# Altium integrated library ON Semi Power Mgt Switching Regulator.IntLib: 29 symbols
Pins are listed as number, name and electrical type; pins without a type are passive.

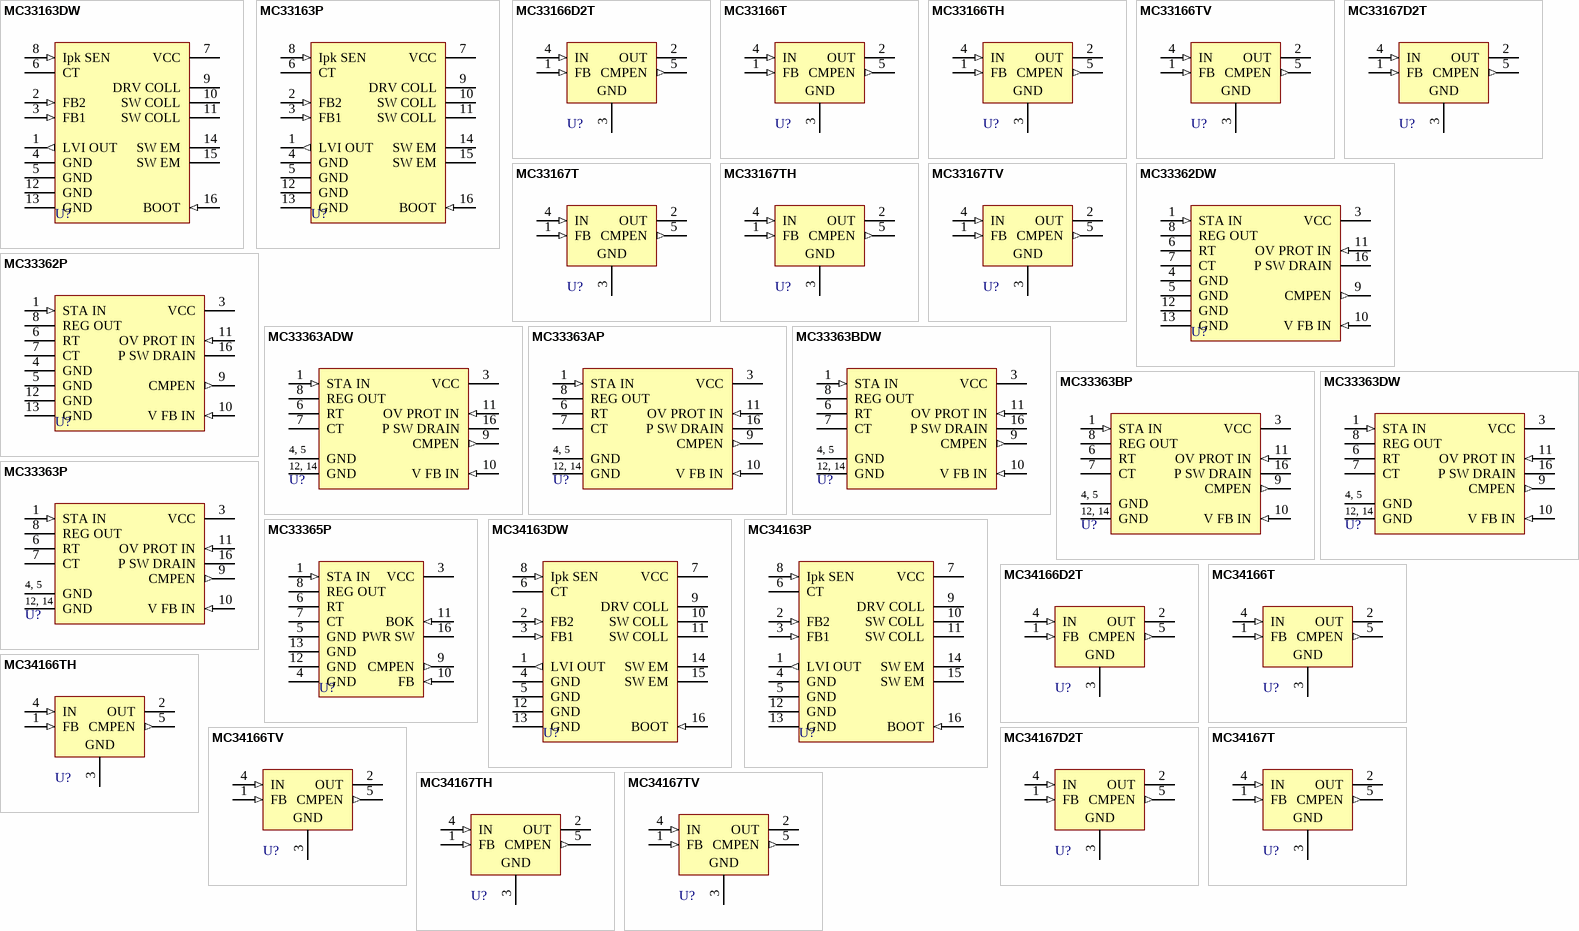
[diagram p0: symbols MC33163DW to MC34167TV]

## MC33163DW
designator U?
Power Switching Regulator; Published: 15-Apr-2002; LatestRevisionDate: 13-Apr-2006; LatestRevisionNote: IPC-7351 Footprint Added.; DatasheetVersion: 1996; PackageVersion: Jul-1999; PackageReference: 751G-03; Publisher: Altium Limited; PackageDescription: 16-Pin Small Outline Integrated Circuit 1.27 mm Pitch; ComponentLink1Description: Manufacturer Link; ComponentLink1URL: http://www.onsemi.com/site/products/taxonomy/0,4438,503,00.html; ComponentLink2Description: Datasheet; ComponentLink2URL: http://www.onsemi.com/pub/Collateral/MC34163-D.PDF
footprint 751G-03_N (SOIC, 16-Leads, Body 10.3x7.5mm, Pitch 1.27mm, IPC Medium Density)
footprint 751G-03_L (SOIC, 16-Leads, Body 10.3x7.5mm, Pitch 1.27mm, IPC High Density)
footprint 751G-03_M (SOIC, 16-Leads, Body 10.3x7.5mm, Pitch 1.27mm, IPC Low Density)
pins: 1 LVI OUT (out), 2 FB2 (in), 3 FB1 (in), 4 GND (power), 5 GND (power), 6 CT, 7 VCC (power), 8 Ipk SEN (in), 9 DRV COLL (oc), 10 SW COLL (oc), 11 SW COLL (oc), 12 GND (power), 13 GND (power), 14 SW EM, 15 SW EM, 16 BOOT (in)

## MC33163P
designator U?
Power Switching Regulator; Published: 15-Apr-2002; DatasheetVersion: 1996; PackageVersion: 1996; PackageReference: 648C-03; Publisher: Altium Limited; PackageDescription: DIP; 16 Leads; Row Spacing 7.62 mm; Pitch 2.54 mm; ComponentLink1Description: Manufacturer Link; ComponentLink1URL: http://www.onsemi.com/site/products/taxonomy/0,4438,503,00.html; ComponentLink2Description: Datasheet; ComponentLink2URL: http://www.onsemi.com/pub/Collateral/MC34163-D.PDF
footprint 648C-03 (DIP; 16 Leads; Row Spacing 7.62 mm; Pitch 2.54 mm)
pins: 1 LVI OUT (out), 2 FB2 (in), 3 FB1 (in), 4 GND (power), 5 GND (power), 6 CT, 7 VCC (power), 8 Ipk SEN (in), 9 DRV COLL (oc), 10 SW COLL (oc), 11 SW COLL (oc), 12 GND (power), 13 GND (power), 14 SW EM, 15 SW EM, 16 BOOT (in)

## MC33166D2T
designator U?
Power Switching Regulator; Note: Pin 3 is electrically connected to Pin 6 (TAB);Pin 6 is the heatsink; Published: 15-Apr-2002; DatasheetVersion: 1996; PackageVersion: Jul-1999; PackageReference: 936A-02; Publisher: Altium Limited; PackageDescription: D2-PAK; 5 Leads; Body 14.7 (inc. leads) x 10.2 mm (LxW max); ComponentLink1Description: Manufacturer Link; ComponentLink1URL: http://www.onsemi.com/site/products/taxonomy/0,4438,503,00.html; ComponentLink2Description: Datasheet; ComponentLink2URL: http://www.onsemi.com/pub/Collateral/MC34166-D.PDF
footprint 936A-02 (D2-PAK; 5 Leads; Body 14.7 (inc. leads) x 10.2 mm (LxW max))
pins: 1 FB (in), 2 OUT (oe), 3 GND (power), 4 IN (in), 5 CMPEN (out)

## MC33166T
designator U?
Power Switching Regulator; Note: Heatsink surface is connected to Pin 3; Published: 15-Apr-2002; DatasheetVersion: 1996; PackageVersion: Jul-1999; PackageReference: 314D-03; Publisher: Altium Limited; PackageDescription: TO, Thru-Hole, Vertical, Heatsink Mounted; 5 In-Line Leads; Pitch 1.70 mm; Code_JEDEC: TS-001-AA; ComponentLink1Description: Manufacturer Link; ComponentLink1URL: http://www.onsemi.com/site/products/taxonomy/0,4438,503,00.html; ComponentLink2Description: Datasheet; ComponentLink2URL: http://www.onsemi.com/pub/Collateral/MC34166-D.PDF
footprint 314D-03 (TO, Thru-Hole, Vertical, Heatsink Mounted; 5 In-Line Leads; Pitch 1.70 mm)
pins: 1 FB (in), 2 OUT (oe), 3 GND (power), 4 IN (in), 5 CMPEN (out)

## MC33166TH
designator U?
Power Switching Regulator; Note: Heatsink surface is connected to Pin 3; Published: 15-Apr-2002; DatasheetVersion: 1996; PackageVersion: 1997; PackageReference: 314A-03; Publisher: Altium Limited; PackageDescription: TO, Thru-Hole, Horizontal, Heatsink Mounted; 5 Bent Staggered Leads; Pitch 1.7 mm; ComponentLink1Description: Manufacturer Link; ComponentLink1URL: http://www.onsemi.com/site/products/taxonomy/0,4438,503,00.html; ComponentLink2Description: Datasheet; ComponentLink2URL: http://www.onsemi.com/pub/Collateral/MC34166-D.PDF
footprint 314A-03 (TO, Thru-Hole, Horizontal, Heatsink Mounted; 5 Bent Staggered Leads; Pitch 1.7 mm)
pins: 1 FB (in), 2 OUT (oe), 3 GND (power), 4 IN (in), 5 CMPEN (out)

## MC33166TV
designator U?
Power Switching Regulator; Note: Heatsink surface is connected to Pin 3; Published: 15-Apr-2002; DatasheetVersion: 1996; PackageVersion: Jul-1999; PackageReference: 314B-05; Publisher: Altium Limited; PackageDescription: TO, Thru-Hole, Vertical, Heatsink Mounted; 5 Bent Staggered Leads; Pitch 1.7mm; ComponentLink1Description: Manufacturer Link; ComponentLink1URL: http://www.onsemi.com/site/products/taxonomy/0,4438,503,00.html; ComponentLink2Description: Datasheet; ComponentLink2URL: http://www.onsemi.com/pub/Collateral/MC34166-D.PDF
footprint 314B-05 (TO, Thru-Hole, Vertical, Heatsink Mounted; 5 Bent Staggered Leads; Pitch 1.7mm)
pins: 1 FB (in), 2 OUT (oe), 3 GND (power), 4 IN (in), 5 CMPEN (out)

## MC33167D2T
designator U?
Power Switching Regulator; Note: Pin 3 is electrically connected to Pin 6 (TAB);Pin 6 is the heatsink; Published: 15-Apr-2002; DatasheetVersion: 1996; PackageVersion: Jul-1999; PackageReference: 936A-02; Publisher: Altium Limited; PackageDescription: D2-PAK; 5 Leads; Body 14.7 (inc. leads) x 10.2 mm (LxW max); ComponentLink1Description: Manufacturer Link; ComponentLink1URL: http://www.onsemi.com/site/products/taxonomy/0,4438,503,00.html; ComponentLink2Description: Datasheet; ComponentLink2URL: http://www.onsemi.com/pub/Collateral/MC34167-D.PDF
footprint 936A-02 (D2-PAK; 5 Leads; Body 14.7 (inc. leads) x 10.2 mm (LxW max))
pins: 1 FB (in), 2 OUT (oe), 3 GND (power), 4 IN (in), 5 CMPEN (out)

## MC33167T
designator U?
Power Switching Regulator; Note: Heatsink is Pin3; Published: 15-Apr-2002; DatasheetVersion: 1996; PackageVersion: Jul-1999; PackageReference: 314D-03; Publisher: Altium Limited; PackageDescription: TO, Thru-Hole, Vertical, Heatsink Mounted; 5 In-Line Leads; Pitch 1.70 mm; Code_JEDEC: TS-001-AA; ComponentLink1Description: Manufacturer Link; ComponentLink1URL: http://www.onsemi.com/site/products/taxonomy/0,4438,503,00.html; ComponentLink2Description: Datasheet; ComponentLink2URL: http://www.onsemi.com/pub/Collateral/MC34167-D.PDF
footprint 314D-03 (TO, Thru-Hole, Vertical, Heatsink Mounted; 5 In-Line Leads; Pitch 1.70 mm)
pins: 1 FB (in), 2 OUT (oe), 3 GND (power), 4 IN (in), 5 CMPEN (out)

## MC33167TH
designator U?
Power Switching Regulator; Note: Heatsink is Pin3; Published: 15-Apr-2002; DatasheetVersion: 1996; PackageVersion: 1997; PackageReference: 314A-03; Publisher: Altium Limited; PackageDescription: TO, Thru-Hole, Horizontal, Heatsink Mounted; 5 Bent Staggered Leads; Pitch 1.7 mm; ComponentLink1Description: Manufacturer Link; ComponentLink1URL: http://www.onsemi.com/site/products/taxonomy/0,4438,503,00.html; ComponentLink2Description: Datasheet; ComponentLink2URL: http://www.onsemi.com/pub/Collateral/MC34167-D.PDF
footprint 314A-03 (TO, Thru-Hole, Horizontal, Heatsink Mounted; 5 Bent Staggered Leads; Pitch 1.7 mm)
pins: 1 FB (in), 2 OUT (oe), 3 GND (power), 4 IN (in), 5 CMPEN (out)

## MC33167TV
designator U?
Power Switching Regulator; Note: Heatsink is Pin3; Published: 15-Apr-2002; DatasheetVersion: 1996; PackageVersion: Jul-1999; PackageReference: 314B-05; Publisher: Altium Limited; PackageDescription: TO, Thru-Hole, Vertical, Heatsink Mounted; 5 Bent Staggered Leads; Pitch 1.7mm; ComponentLink1Description: Manufacturer Link; ComponentLink1URL: http://www.onsemi.com/site/products/taxonomy/0,4438,503,00.html; ComponentLink2Description: Datasheet; ComponentLink2URL: http://www.onsemi.com/pub/Collateral/MC34167-D.PDF
footprint 314B-05 (TO, Thru-Hole, Vertical, Heatsink Mounted; 5 Bent Staggered Leads; Pitch 1.7mm)
pins: 1 FB (in), 2 OUT (oe), 3 GND (power), 4 IN (in), 5 CMPEN (out)

## MC33362DW
designator U?
High Voltage Off-Line Switching Regulator; Note: Pin 2, 14, 15 are trimmed; Published: 15-Apr-2002; LatestRevisionDate: 13-Apr-2006; LatestRevisionNote: IPC-7351 Footprint Added.; DatasheetVersion: 1999; PackageVersion: 1999; PackageReference: 751N-01; Publisher: Altium Limited; PackageDescription: 16-Pin (3 Absent) Small Outline Integrated Circuit 1.27 mm Pitch; ComponentLink1Description: Manufacturer Link; ComponentLink1URL: http://www.onsemi.com/site/products/taxonomy/0,4438,503,00.html; ComponentLink2Description: Datasheet; ComponentLink2URL: http://www.onsemi.com/pub/Collateral/MC33362.PDF
footprint 751N-01_N (SOIC, 16-Leads (3 Absent), Body 10.3x7.5 mm, Pitch 1.27mm, IPC Medium Density)
footprint 751N-01_L (SOIC, 16-Leads (3 Absent), Body 10.3x7.5 mm, Pitch 1.27mm, IPC High Density)
footprint 751N-01_M (SOIC, 16-Leads (3 Absent), Body 10.3x7.5 mm, Pitch 1.27mm, IPC Low Density)
pins: 1 STA IN (in), 3 VCC (power), 4 GND (power), 5 GND (power), 6 RT, 7 CT, 8 REG OUT (oe), 9 CMPEN (out), 10 V FB IN (in), 11 OV PROT IN (in), 12 GND (power), 13 GND (power), 16 P SW DRAIN (oc)

## MC33362P
designator U?
High Voltage Off-Line Switching Regulator; Note: Pin 2, 14, 15 are trimmed; Published: 15-Apr-2002; DatasheetVersion: 1999; PackageVersion: 1999; PackageReference: 648E-01; Publisher: Altium Limited; PackageDescription: DIP; 16 Leads (3 Absent); Row Spacing 7.62 mm; Pitch 2.54 mm; ComponentLink1Description: Manufacturer Link; ComponentLink1URL: http://www.onsemi.com/site/products/taxonomy/0,4438,503,00.html; ComponentLink2Description: Datasheet; ComponentLink2URL: http://www.onsemi.com/pub/Collateral/MC33362.PDF
footprint 648E-01 (DIP; 16 Leads (3 Absent); Row Spacing 7.62 mm; Pitch 2.54 mm)
pins: 1 STA IN (in), 3 VCC (power), 4 GND (power), 5 GND (power), 6 RT, 7 CT, 8 REG OUT (oe), 9 CMPEN (out), 10 V FB IN (in), 11 OV PROT IN (in), 12 GND (power), 13 GND (power), 16 P SW DRAIN (oc)

## MC33363ADW
designator U?
High Voltage Off-Line Switching Regulator; Note: Pin 2, 14, 15 are trimmed; Published: 15-Apr-2002; LatestRevisionDate: 13-Apr-2006; LatestRevisionNote: IPC-7351 Footprint Added.; DatasheetVersion: 1998; PackageVersion: 1999; PackageReference: 751N-01; Publisher: Altium Limited; PackageDescription: 16-Pin (3 Absent) Small Outline Integrated Circuit 1.27 mm Pitch; ComponentLink1Description: Manufacturer Link; ComponentLink1URL: http://www.onsemi.com/site/products/taxonomy/0,4438,503,00.html; ComponentLink2Description: Datasheet; ComponentLink2URL: http://www.onsemi.com/pub/Collateral/MC33363A-D.PDF
footprint 751N-01_N (SOIC, 16-Leads (3 Absent), Body 10.3x7.5 mm, Pitch 1.27mm, IPC Medium Density)
footprint 751N-01_L (SOIC, 16-Leads (3 Absent), Body 10.3x7.5 mm, Pitch 1.27mm, IPC High Density)
footprint 751N-01_M (SOIC, 16-Leads (3 Absent), Body 10.3x7.5 mm, Pitch 1.27mm, IPC Low Density)
pins: 1 STA IN (in), 3 VCC (power), 4 GND (power), 5 GND (power), 6 RT, 7 CT, 8 REG OUT (oe), 9 CMPEN (out), 10 V FB IN (in), 11 OV PROT IN (in), 12 GND (power), 13 GND (power), 16 P SW DRAIN (oc)
text: 4, 5; 12, 14

## MC33363AP
designator U?
High Voltage Off-Line Switching Regulator; Note: Pin 2, 14, 15 are trimmed; Published: 15-Apr-2002; DatasheetVersion: 1998; PackageVersion: 1999; PackageReference: 648E-01; Publisher: Altium Limited; PackageDescription: DIP; 16 Leads (3 Absent); Row Spacing 7.62 mm; Pitch 2.54 mm; ComponentLink1Description: Manufacturer Link; ComponentLink1URL: http://www.onsemi.com/site/products/taxonomy/0,4438,503,00.html; ComponentLink2Description: Datasheet; ComponentLink2URL: http://www.onsemi.com/pub/Collateral/MC33363A-D.PDF
footprint 648E-01 (DIP; 16 Leads (3 Absent); Row Spacing 7.62 mm; Pitch 2.54 mm)
pins: 1 STA IN (in), 3 VCC (power), 4 GND (power), 5 GND (power), 6 RT, 7 CT, 8 REG OUT (oe), 9 CMPEN (out), 10 V FB IN (in), 11 OV PROT IN (in), 12 GND (power), 13 GND (power), 16 P SW DRAIN (oc)
text: 4, 5; 12, 14

## MC33363BDW
designator U?
High Voltage Off-Line Switching Regulator; Note: Pin 2, 14, 15 are trimmed; Published: 15-Apr-2002; LatestRevisionDate: 13-Apr-2006; LatestRevisionNote: IPC-7351 Footprint Added.; DatasheetVersion: 1999; PackageVersion: 1999; PackageReference: 751N-01; Publisher: Altium Limited; PackageDescription: 16-Pin (3 Absent) Small Outline Integrated Circuit 1.27 mm Pitch; ComponentLink1Description: Manufacturer Link; ComponentLink1URL: http://www.onsemi.com/site/products/taxonomy/0,4438,503,00.html; ComponentLink2Description: Datasheet; ComponentLink2URL: http://www.onsemi.com/pub/Collateral/MC33363B-D.PDF
footprint 751N-01_N (SOIC, 16-Leads (3 Absent), Body 10.3x7.5 mm, Pitch 1.27mm, IPC Medium Density)
footprint 751N-01_L (SOIC, 16-Leads (3 Absent), Body 10.3x7.5 mm, Pitch 1.27mm, IPC High Density)
footprint 751N-01_M (SOIC, 16-Leads (3 Absent), Body 10.3x7.5 mm, Pitch 1.27mm, IPC Low Density)
pins: 1 STA IN (in), 3 VCC (power), 4 GND (power), 5 GND (power), 6 RT, 7 CT, 8 REG OUT (oe), 9 CMPEN (out), 10 V FB IN (in), 11 OV PROT IN (in), 12 GND (power), 13 GND (power), 16 P SW DRAIN (oc)
text: 4, 5; 12, 14

## MC33363BP
designator U?
High Voltage Off-Line Switching Regulator; Note: Pin 2, 14, 15 are trimmed; Published: 15-Apr-2002; DatasheetVersion: 1999; PackageVersion: 1999; PackageReference: 648E-01; Publisher: Altium Limited; PackageDescription: DIP; 16 Leads (3 Absent); Row Spacing 7.62 mm; Pitch 2.54 mm; ComponentLink1Description: Manufacturer Link; ComponentLink1URL: http://www.onsemi.com/site/products/taxonomy/0,4438,503,00.html; ComponentLink2Description: Datasheet; ComponentLink2URL: http://www.onsemi.com/pub/Collateral/MC33363B-D.PDF
footprint 648E-01 (DIP; 16 Leads (3 Absent); Row Spacing 7.62 mm; Pitch 2.54 mm)
pins: 1 STA IN (in), 3 VCC (power), 4 GND (power), 5 GND (power), 6 RT, 7 CT, 8 REG OUT (oe), 9 CMPEN (out), 10 V FB IN (in), 11 OV PROT IN (in), 12 GND (power), 13 GND (power), 16 P SW DRAIN (oc)
text: 4, 5; 12, 14

## MC33363DW
designator U?
High Voltage Off-Line Switching Regulator; Note: Pin 2, 14, 15 are trimmed; Published: 15-Apr-2002; LatestRevisionDate: 13-Apr-2006; LatestRevisionNote: IPC-7351 Footprint Added.; DatasheetVersion: 1998; PackageVersion: 1999; PackageReference: 751N-01; Publisher: Altium Limited; PackageDescription: 16-Pin (3 Absent) Small Outline Integrated Circuit 1.27 mm Pitch; ComponentLink1Description: Manufacturer Link; ComponentLink1URL: http://www.onsemi.com/site/products/taxonomy/0,4438,503,00.html; ComponentLink2Description: Datasheet; ComponentLink2URL: http://www.onsemi.com/pub/Collateral/MC33363-D.PDF
footprint 751N-01_N (SOIC, 16-Leads (3 Absent), Body 10.3x7.5 mm, Pitch 1.27mm, IPC Medium Density)
footprint 751N-01_L (SOIC, 16-Leads (3 Absent), Body 10.3x7.5 mm, Pitch 1.27mm, IPC High Density)
footprint 751N-01_M (SOIC, 16-Leads (3 Absent), Body 10.3x7.5 mm, Pitch 1.27mm, IPC Low Density)
pins: 1 STA IN (in), 3 VCC (power), 4 GND (power), 5 GND (power), 6 RT, 7 CT, 8 REG OUT (oe), 9 CMPEN (out), 10 V FB IN (in), 11 OV PROT IN (in), 12 GND (power), 13 GND (power), 16 P SW DRAIN (oc)
text: 4, 5; 12, 14

## MC33363P
designator U?
High Voltage Off-Line Switching Regulator; Note: Pin 2, 14, 15 are trimmed; Published: 15-Apr-2002; DatasheetVersion: 1998; PackageVersion: 1999; PackageReference: 648E-01; Publisher: Altium Limited; PackageDescription: DIP; 16 Leads (3 Absent); Row Spacing 7.62 mm; Pitch 2.54 mm; ComponentLink1Description: Manufacturer Link; ComponentLink1URL: http://www.onsemi.com/site/products/taxonomy/0,4438,503,00.html; ComponentLink2Description: Datasheet; ComponentLink2URL: http://www.onsemi.com/pub/Collateral/MC33363-D.PDF
footprint 648E-01 (DIP; 16 Leads (3 Absent); Row Spacing 7.62 mm; Pitch 2.54 mm)
pins: 1 STA IN (in), 3 VCC (power), 4 GND (power), 5 GND (power), 6 RT, 7 CT, 8 REG OUT (oe), 9 CMPEN (out), 10 V FB IN (in), 11 OV PROT IN (in), 12 GND (power), 13 GND (power), 16 P SW DRAIN (oc)
text: 4, 5; 12, 14

## MC33365P
designator U?
High Voltage  Off-Line Switching Regulator; Published: 15-Apr-2002; DatasheetVersion: 1999; PackageVersion: 1999; PackageReference: 648E-01; Publisher: Altium Limited; PackageDescription: DIP; 16 Leads (3 Absent); Row Spacing 7.62 mm; Pitch 2.54 mm; ComponentLink1Description: Manufacturer Link; ComponentLink1URL: http://www.onsemi.com/site/products/taxonomy/0,4438,503,00.html; ComponentLink2Description: Datasheet; ComponentLink2URL: http://www.onsemi.com/pub/Collateral/MC33365-D.PDF
footprint 648E-01 (DIP; 16 Leads (3 Absent); Row Spacing 7.62 mm; Pitch 2.54 mm)
pins: 1 STA IN (in), 3 VCC (power), 4 GND (power), 5 GND (power), 6 RT, 7 CT, 8 REG OUT (oe), 9 CMPEN (out), 10 FB (in), 11 BOK (in), 12 GND (power), 13 GND (power), 16 PWR SW (oc)

## MC34163DW
designator U?
Power Switching Regulator; Published: 15-Apr-2002; LatestRevisionDate: 13-Apr-2006; LatestRevisionNote: IPC-7351 Footprint Added.; DatasheetVersion: 1996; PackageVersion: Jul-1999; PackageReference: 751G-03; Publisher: Altium Limited; PackageDescription: 16-Pin Small Outline Integrated Circuit 1.27 mm Pitch; ComponentLink1Description: Manufacturer Link; ComponentLink1URL: http://www.onsemi.com/site/products/taxonomy/0,4438,503,00.html; ComponentLink2Description: Datasheet; ComponentLink2URL: http://www.onsemi.com/pub/Collateral/MC34163-D.PDF
footprint 751G-03_N (SOIC, 16-Leads, Body 10.3x7.5mm, Pitch 1.27mm, IPC Medium Density)
footprint 751G-03_L (SOIC, 16-Leads, Body 10.3x7.5mm, Pitch 1.27mm, IPC High Density)
footprint 751G-03_M (SOIC, 16-Leads, Body 10.3x7.5mm, Pitch 1.27mm, IPC Low Density)
pins: 1 LVI OUT (out), 2 FB2 (in), 3 FB1 (in), 4 GND (power), 5 GND (power), 6 CT, 7 VCC (power), 8 Ipk SEN (in), 9 DRV COLL (oc), 10 SW COLL (oc), 11 SW COLL (oc), 12 GND (power), 13 GND (power), 14 SW EM, 15 SW EM, 16 BOOT (in)

## MC34163P
designator U?
Power Switching Regulator; Published: 15-Apr-2002; DatasheetVersion: 1996; PackageVersion: 1996; PackageReference: 648C-03; Publisher: Altium Limited; PackageDescription: DIP; 16 Leads; Row Spacing 7.62 mm; Pitch 2.54 mm; ComponentLink1Description: Manufacturer Link; ComponentLink1URL: http://www.onsemi.com/site/products/taxonomy/0,4438,503,00.html; ComponentLink2Description: Datasheet; ComponentLink2URL: http://www.onsemi.com/pub/Collateral/MC34163-D.PDF
footprint 648C-03 (DIP; 16 Leads; Row Spacing 7.62 mm; Pitch 2.54 mm)
pins: 1 LVI OUT (out), 2 FB2 (in), 3 FB1 (in), 4 GND (power), 5 GND (power), 6 CT, 7 VCC (power), 8 Ipk SEN (in), 9 DRV COLL (oc), 10 SW COLL (oc), 11 SW COLL (oc), 12 GND (power), 13 GND (power), 14 SW EM, 15 SW EM, 16 BOOT (in)

## MC34166D2T
designator U?
Power Switching Regulator; Note: Pin 3 is electrically connected to Pin 6 (TAB);Pin 6 is the heatsink; Published: 15-Apr-2002; DatasheetVersion: 1996; PackageVersion: Jul-1999; PackageReference: 936A-02; Publisher: Altium Limited; PackageDescription: D2-PAK; 5 Leads; Body 14.7 (inc. leads) x 10.2 mm (LxW max); ComponentLink1Description: Manufacturer Link; ComponentLink1URL: http://www.onsemi.com/site/products/taxonomy/0,4438,503,00.html; ComponentLink2Description: Datasheet; ComponentLink2URL: http://www.onsemi.com/pub/Collateral/MC34166-D.PDF
footprint 936A-02 (D2-PAK; 5 Leads; Body 14.7 (inc. leads) x 10.2 mm (LxW max))
pins: 1 FB (in), 2 OUT (oe), 3 GND (power), 4 IN (in), 5 CMPEN (out)

## MC34166T
designator U?
Power Switching Regulator; Note: Heatsink surface is connected to Pin 3; Published: 15-Apr-2002; DatasheetVersion: 1996; PackageVersion: Jul-1999; PackageReference: 314D-03; Publisher: Altium Limited; PackageDescription: TO, Thru-Hole, Vertical, Heatsink Mounted; 5 In-Line Leads; Pitch 1.70 mm; Code_JEDEC: TS-001-AA; ComponentLink1Description: Manufacturer Link; ComponentLink1URL: http://www.onsemi.com/site/products/taxonomy/0,4438,503,00.html; ComponentLink2Description: Datasheet; ComponentLink2URL: http://www.onsemi.com/pub/Collateral/MC34166-D.PDF
footprint 314D-03 (TO, Thru-Hole, Vertical, Heatsink Mounted; 5 In-Line Leads; Pitch 1.70 mm)
pins: 1 FB (in), 2 OUT (oe), 3 GND (power), 4 IN (in), 5 CMPEN (out)

## MC34166TH
designator U?
Power Switching Regulator; Note: Heatsink surface is connected to Pin 3; Published: 15-Apr-2002; DatasheetVersion: 1996; PackageVersion: 1997; PackageReference: 314A-03; Publisher: Altium Limited; PackageDescription: TO, Thru-Hole, Horizontal, Heatsink Mounted; 5 Bent Staggered Leads; Pitch 1.7 mm; ComponentLink1Description: Manufacturer Link; ComponentLink1URL: http://www.onsemi.com/site/products/taxonomy/0,4438,503,00.html; ComponentLink2Description: Datasheet; ComponentLink2URL: http://www.onsemi.com/pub/Collateral/MC34166-D.PDF
footprint 314A-03 (TO, Thru-Hole, Horizontal, Heatsink Mounted; 5 Bent Staggered Leads; Pitch 1.7 mm)
pins: 1 FB (in), 2 OUT (oe), 3 GND (power), 4 IN (in), 5 CMPEN (out)

## MC34166TV
designator U?
Power Switching Regulator; Note: Heatsink surface is connected to Pin 3; Published: 15-Apr-2002; DatasheetVersion: 1996; PackageVersion: Jul-1999; PackageReference: 314B-05; Publisher: Altium Limited; PackageDescription: TO, Thru-Hole, Vertical, Heatsink Mounted; 5 Bent Staggered Leads; Pitch 1.7mm; ComponentLink1Description: Manufacturer Link; ComponentLink1URL: http://www.onsemi.com/site/products/taxonomy/0,4438,503,00.html; ComponentLink2Description: Datasheet; ComponentLink2URL: http://www.onsemi.com/pub/Collateral/MC34166-D.PDF
footprint 314B-05 (TO, Thru-Hole, Vertical, Heatsink Mounted; 5 Bent Staggered Leads; Pitch 1.7mm)
pins: 1 FB (in), 2 OUT (oe), 3 GND (power), 4 IN (in), 5 CMPEN (out)

## MC34167D2T
designator U?
Power Switching Regulator; Note: Pin 3 is electrically connected to Pin 6 (TAB);Pin 6 is the heatsink; Published: 15-Apr-2002; DatasheetVersion: 1996; PackageVersion: Jul-1999; PackageReference: 936A-02; Publisher: Altium Limited; PackageDescription: D2-PAK; 5 Leads; Body 14.7 (inc. leads) x 10.2 mm (LxW max); ComponentLink1Description: Manufacturer Link; ComponentLink1URL: http://www.onsemi.com/site/products/taxonomy/0,4438,503,00.html; ComponentLink2Description: Datasheet; ComponentLink2URL: http://www.onsemi.com/pub/Collateral/MC34167-D.PDF
footprint 936A-02 (D2-PAK; 5 Leads; Body 14.7 (inc. leads) x 10.2 mm (LxW max))
pins: 1 FB (in), 2 OUT (oe), 3 GND (power), 4 IN (in), 5 CMPEN (out)

## MC34167T
designator U?
Power Switching Regulator; Note: Heatsink is Pin3; Published: 15-Apr-2002; DatasheetVersion: 1996; PackageVersion: Jul-1999; PackageReference: 314D-03; Publisher: Altium Limited; PackageDescription: TO, Thru-Hole, Vertical, Heatsink Mounted; 5 In-Line Leads; Pitch 1.70 mm; Code_JEDEC: TS-001-AA; ComponentLink1Description: Manufacturer Link; ComponentLink1URL: http://www.onsemi.com/site/products/taxonomy/0,4438,503,00.html; ComponentLink2Description: Datasheet; ComponentLink2URL: http://www.onsemi.com/pub/Collateral/MC34167-D.PDF
footprint 314D-03 (TO, Thru-Hole, Vertical, Heatsink Mounted; 5 In-Line Leads; Pitch 1.70 mm)
pins: 1 FB (in), 2 OUT (oe), 3 GND (power), 4 IN (in), 5 CMPEN (out)

## MC34167TH
designator U?
Power Switching Regulator; Note: Heatsink is Pin3; Published: 15-Apr-2002; DatasheetVersion: 1996; PackageVersion: 1997; PackageReference: 314A-03; Publisher: Altium Limited; PackageDescription: TO, Thru-Hole, Horizontal, Heatsink Mounted; 5 Bent Staggered Leads; Pitch 1.7 mm; ComponentLink1Description: Manufacturer Link; ComponentLink1URL: http://www.onsemi.com/site/products/taxonomy/0,4438,503,00.html; ComponentLink2Description: Datasheet; ComponentLink2URL: http://www.onsemi.com/pub/Collateral/MC34167-D.PDF
footprint 314A-03 (TO, Thru-Hole, Horizontal, Heatsink Mounted; 5 Bent Staggered Leads; Pitch 1.7 mm)
pins: 1 FB (in), 2 OUT (oe), 3 GND (power), 4 IN (in), 5 CMPEN (out)

## MC34167TV
designator U?
Power Switching Regulator; Note: Heatsink is Pin3; Published: 15-Apr-2002; DatasheetVersion: 1996; PackageVersion: Jul-1999; PackageReference: 314B-05; Publisher: Altium Limited; PackageDescription: TO, Thru-Hole, Vertical, Heatsink Mounted; 5 Bent Staggered Leads; Pitch 1.7mm; ComponentLink1Description: Manufacturer Link; ComponentLink1URL: http://www.onsemi.com/site/products/taxonomy/0,4438,503,00.html; ComponentLink2Description: Datasheet; ComponentLink2URL: http://www.onsemi.com/pub/Collateral/MC34167-D.PDF
footprint 314B-05 (TO, Thru-Hole, Vertical, Heatsink Mounted; 5 Bent Staggered Leads; Pitch 1.7mm)
pins: 1 FB (in), 2 OUT (oe), 3 GND (power), 4 IN (in), 5 CMPEN (out)